# EAGLE library part PIC18F2550-I/SP-COMP-B (library mcu)
Microchip PIC Microcontrollers and other Devices Based on the following sources : Microchip Data Book, 1993 THE EMERGING WORLD STANDARD, 1995/1996 Microchip, Technical Library CD-ROM, June 1998 www.microchip.com Created by librarian@cadsoft.de
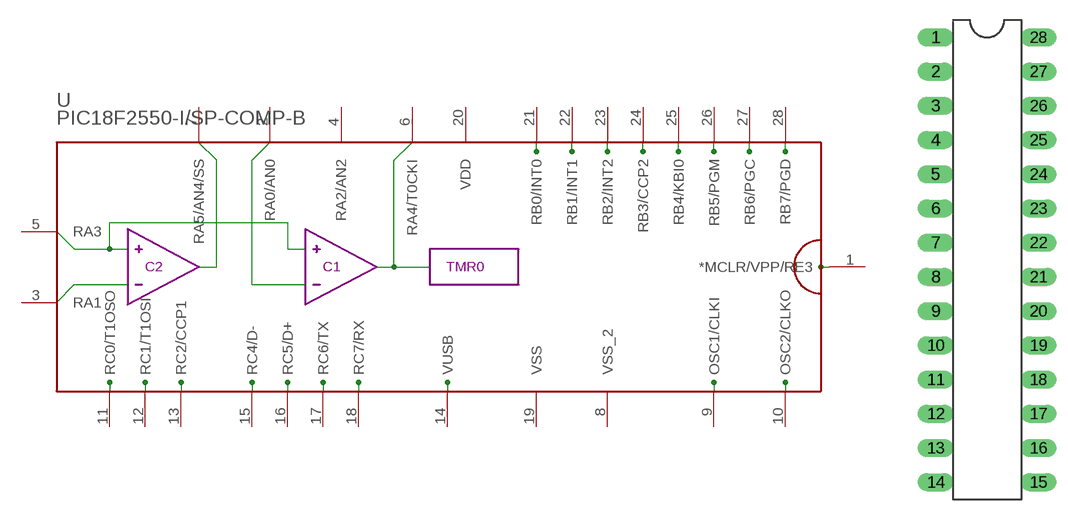
[diagram p6: symbol with the pads of DIL28-3/V; footprint DIL28-3/V]

Designator prefix U

## PIC18F2550-I/SP-COMP-B-V  [DIL28-3/V]
1  *MCLR/VPP/RE3  pas
2  RA0/AN0  pas
3  RA1  pas
4  RA2/AN2  pas
5  RA3  pas
6  RA4/T0CKI  pas
7  RA5/AN4/SS  pas
8  VSS_2  pas
9  OSC1/CLKI  pas
10  OSC2/CLKO  pas
11  RC0/T1OSO  pas
12  RC1/T1OSI  pas
13  RC2/CCP1  pas
14  VUSB  pas
15  RC4/D-  pas
16  RC5/D+  pas
17  RC6/TX  pas
18  RC7/RX  pas
19  VSS  pas
20  VDD  pas
21  RB0/INT0  pas
22  RB1/INT1  pas
23  RB2/INT2  pas
24  RB3/CCP2  pas
25  RB4/KBI0  pas
26  RB5/PGM  pas
27  RB6/PGC  pas
28  RB7/PGD  pas

## Footprint DIL28-3/V (pad centres in mm)
drill 0.813 long: 1 -3.81,16.51; 2 -3.81,13.97; 3 -3.81,11.43; 4 -3.81,8.89; 5 -3.81,6.35; 6 -3.81,3.81; 7 -3.81,1.27; 8 -3.81,-1.27; 9 -3.81,-3.81; 10 -3.81,-6.35; 11 -3.81,-8.89; 12 -3.81,-11.43; 13 -3.81,-13.97; 14 -3.81,-16.51; 15 3.81,-16.51; 16 3.81,-13.97; 17 3.81,-11.43; 18 3.81,-8.89; 19 3.81,-6.35; 20 3.81,-3.81; 21 3.81,-1.27; 22 3.81,1.27; 23 3.81,3.81; 24 3.81,6.35; 25 3.81,8.89; 26 3.81,11.43; 27 3.81,13.97; 28 3.81,16.51